# EAGLE library part LF353D (library ICs)
LF353 Wide-Bandwidth JFET-Input Dual Operational Amplifier 36V 3MHz 3.6mA
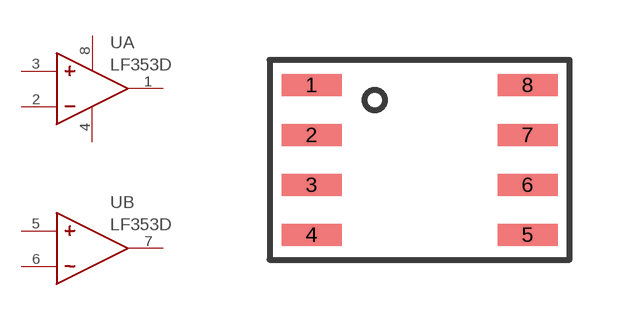
[diagram p183: symbol with the pads of SO8; footprint SO8]

Designator prefix U; gates A=OPAMP_SUPPLIES B=OPAMP_NOSUPPLIES

## LF353DR (DIGIKEY: 296-14587-1-ND; HEIGHT: 1.75; PRICE_PER: 0.41; VALUE: LF353)  [SO8]
1  A:OUT
2  A:-
3  A:+
4  A:V-
5  B:+
6  B:-
7  B:OUT
8  A:V+

## Footprint SO8 (pad centres in mm)
smd 1.5 x 0.55: 1 -2.7,1.875; 2 -2.7,0.625; 3 -2.7,-0.625; 4 -2.7,-1.875; 5 2.7,-1.875; 6 2.7,-0.625; 7 2.7,0.625; 8 2.7,1.875